# Altium schematic symbol library Vishay Roederstein Tantalum Radial-Lead Capacitor.SchLib: 56 symbols
Pins are listed as number, name and electrical type; pins without a type are passive.

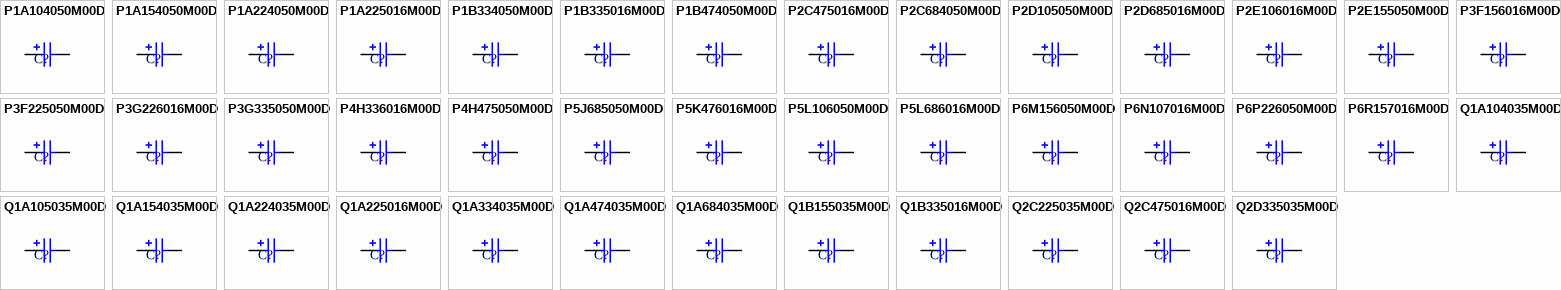
[diagram p0: symbols P1A104050M00D to Q2D335035M00D]

## P1A104050M00D
designator C?
Resin-Coated, Radial-Leaded Solid Tantalum Capacitor: 0.1uF, 20% Tolerance, UR = 50 Volt @ +85°C, Surge = 65V; Note: See Data Sheet for full range of components; Published: 19-Mar-2004; DatasheetDocument: 28-Mar-2002; PackageReference: ETPW-1A; Publisher: Altium Limited; ComponentLink1Description: Manufacturer Link; ComponentLink1URL: http://www.vishay.com/; ComponentLink2Description: Datasheet; ComponentLink2URL: http://www.vishay.com/docs/42074/etpw.pdf; Value: 0.1uF
footprint ETPW-1A (Capacitor, Tantalum Bead; Body 4 x 7.1 mm (Dia.xH max); Pin Spacing 2.5 mm (typ))
simulation model CAP (Capacitor)
signal-integrity model P1A104050M00D
pins: 1, 2
1 alternate drawing of the same symbol

## P1A154050M00D
designator C?
Resin-Coated, Radial-Leaded Solid Tantalum Capacitor: 0.15uF, 20% Tolerance, UR = 50 Volt @ +85°C, Surge = 65V; Note: See Data Sheet for full range of components; Published: 19-Mar-2004; DatasheetDocument: 28-Mar-2002; PackageReference: ETPW-1A; Publisher: Altium Limited; ComponentLink1Description: Manufacturer Link; ComponentLink1URL: http://www.vishay.com/; ComponentLink2Description: Datasheet; ComponentLink2URL: http://www.vishay.com/docs/42074/etpw.pdf; Value: 0.15uF
footprint ETPW-1A (Capacitor, Tantalum Bead; Body 4 x 7.1 mm (Dia.xH max); Pin Spacing 2.5 mm (typ))
simulation model CAP (Capacitor)
signal-integrity model P1A154050M00D
pins: 1, 2
1 alternate drawing of the same symbol

## P1A224050M00D
designator C?
Resin-Coated, Radial-Leaded Solid Tantalum Capacitor: 0.22uF, 20% Tolerance, UR = 50 Volt @ +85°C, Surge = 65V; Note: See Data Sheet for full range of components; Published: 19-Mar-2004; DatasheetDocument: 28-Mar-2002; PackageReference: ETPW-1A; Publisher: Altium Limited; ComponentLink1Description: Manufacturer Link; ComponentLink1URL: http://www.vishay.com/; ComponentLink2Description: Datasheet; ComponentLink2URL: http://www.vishay.com/docs/42074/etpw.pdf; Value: 0.22uF
footprint ETPW-1A (Capacitor, Tantalum Bead; Body 4 x 7.1 mm (Dia.xH max); Pin Spacing 2.5 mm (typ))
simulation model CAP (Capacitor)
signal-integrity model P1A224050M00D
pins: 1, 2
1 alternate drawing of the same symbol

## P1A225016M00D
designator C?
Resin-Coated, Radial-Leaded Solid Tantalum Capacitor: 2.2uF, 20% Tolerance, UR = 16 Volt @ +85°C, Surge = 20.8V; Note: See Data Sheet for full range of components; Published: 19-Mar-2004; DatasheetDocument: 28-Mar-2002; PackageReference: ETPW-1A; Publisher: Altium Limited; ComponentLink1Description: Manufacturer Link; ComponentLink1URL: http://www.vishay.com/; ComponentLink2Description: Datasheet; ComponentLink2URL: http://www.vishay.com/docs/42074/etpw.pdf; Value: 2.2uF
footprint ETPW-1A (Capacitor, Tantalum Bead; Body 4 x 7.1 mm (Dia.xH max); Pin Spacing 2.5 mm (typ))
simulation model CAP (Capacitor)
signal-integrity model P1A225016M00D
pins: 1, 2
1 alternate drawing of the same symbol

## P1B334050M00D
designator C?
Resin-Coated, Radial-Leaded Solid Tantalum Capacitor: 0.33uF, 20% Tolerance, UR = 50 Volt @ +85°C, Surge = 65V; Note: See Data Sheet for full range of components; Published: 19-Mar-2004; DatasheetDocument: 28-Mar-2002; PackageReference: ETPW-1B; Publisher: Altium Limited; ComponentLink1Description: Manufacturer Link; ComponentLink1URL: http://www.vishay.com/; ComponentLink2Description: Datasheet; ComponentLink2URL: http://www.vishay.com/docs/42074/etpw.pdf; Value: 0.33uF
footprint ETPW-1B (Capacitor, Tantalum Bead; Body 4 x 7.1 mm (Dia.xH max); Pin Spacing 2.5 mm (typ))
simulation model CAP (Capacitor)
signal-integrity model P1B334050M00D
pins: 1, 2
1 alternate drawing of the same symbol

## P1B335016M00D
designator C?
Resin-Coated, Radial-Leaded Solid Tantalum Capacitor: 3.3uF, 20% Tolerance, UR = 16 Volt @ +85°C, Surge = 20.8V; Note: See Data Sheet for full range of components; Published: 19-Mar-2004; DatasheetDocument: 28-Mar-2002; PackageReference: ETPW-1B; Publisher: Altium Limited; ComponentLink1Description: Manufacturer Link; ComponentLink1URL: http://www.vishay.com/; ComponentLink2Description: Datasheet; ComponentLink2URL: http://www.vishay.com/docs/42074/etpw.pdf; Value: 3.3uF
footprint ETPW-1B (Capacitor, Tantalum Bead; Body 4 x 7.1 mm (Dia.xH max); Pin Spacing 2.5 mm (typ))
simulation model CAP (Capacitor)
signal-integrity model P1B335016M00D
pins: 1, 2
1 alternate drawing of the same symbol

## P1B474050M00D
designator C?
Resin-Coated, Radial-Leaded Solid Tantalum Capacitor: 0.47uF, 20% Tolerance, UR = 50 Volt @ +85°C, Surge = 65V; Note: See Data Sheet for full range of components; Published: 19-Mar-2004; DatasheetDocument: 28-Mar-2002; PackageReference: ETPW-1B; Publisher: Altium Limited; ComponentLink1Description: Manufacturer Link; ComponentLink1URL: http://www.vishay.com/; ComponentLink2Description: Datasheet; ComponentLink2URL: http://www.vishay.com/docs/42074/etpw.pdf; Value: 0.47uF
footprint ETPW-1B (Capacitor, Tantalum Bead; Body 4 x 7.1 mm (Dia.xH max); Pin Spacing 2.5 mm (typ))
simulation model CAP (Capacitor)
signal-integrity model P1B474050M00D
pins: 1, 2
1 alternate drawing of the same symbol

## P2C475016M00D
designator C?
Resin-Coated, Radial-Leaded Solid Tantalum Capacitor: 4.7uF, 20% Tolerance, UR = 16 Volt @ +85°C, Surge = 20.8V; Note: See Data Sheet for full range of components; Published: 19-Mar-2004; DatasheetDocument: 28-Mar-2002; PackageReference: ETPW-2C; Publisher: Altium Limited; ComponentLink1Description: Manufacturer Link; ComponentLink1URL: http://www.vishay.com/; ComponentLink2Description: Datasheet; ComponentLink2URL: http://www.vishay.com/docs/42074/etpw.pdf; Value: 4.7uF
footprint ETPW-2C (Capacitor, Tantalum Bead; Body 4.5 x 8 mm (Dia.xH max); Pin Spacing 2.5 mm (typ))
simulation model CAP (Capacitor)
signal-integrity model P2C475016M00D
pins: 1, 2
1 alternate drawing of the same symbol

## P2C684050M00D
designator C?
Resin-Coated, Radial-Leaded Solid Tantalum Capacitor: 0.68uF, 20% Tolerance, UR = 50 Volt @ +85°C, Surge = 65V; Note: See Data Sheet for full range of components; Published: 19-Mar-2004; DatasheetDocument: 28-Mar-2002; PackageReference: ETPW-2C; Publisher: Altium Limited; ComponentLink1Description: Manufacturer Link; ComponentLink1URL: http://www.vishay.com/; ComponentLink2Description: Datasheet; ComponentLink2URL: http://www.vishay.com/docs/42074/etpw.pdf; Value: 0.68uF
footprint ETPW-2C (Capacitor, Tantalum Bead; Body 4.5 x 8 mm (Dia.xH max); Pin Spacing 2.5 mm (typ))
simulation model CAP (Capacitor)
signal-integrity model P2C684050M00D
pins: 1, 2
1 alternate drawing of the same symbol

## P2D105050M00D
designator C?
Resin-Coated, Radial-Leaded Solid Tantalum Capacitor: 1.0uF, 20% Tolerance, UR = 50 Volt @ +85°C, Surge = 65V; Note: See Data Sheet for full range of components; Published: 19-Mar-2004; DatasheetDocument: 28-Mar-2002; PackageReference: ETPW-2D; Publisher: Altium Limited; ComponentLink1Description: Manufacturer Link; ComponentLink1URL: http://www.vishay.com/; ComponentLink2Description: Datasheet; ComponentLink2URL: http://www.vishay.com/docs/42074/etpw.pdf; Value: 1.0uF
footprint ETPW-2D (Capacitor, Tantalum Bead; Body 4.5 x 8 mm (Dia.xH max); Pin Spacing 2.5 mm (typ))
simulation model CAP (Capacitor)
signal-integrity model P2D105050M00D
pins: 1, 2
1 alternate drawing of the same symbol

## P2D685016M00D
designator C?
Resin-Coated, Radial-Leaded Solid Tantalum Capacitor: 6.8uF, 20% Tolerance, UR = 16 Volt @ +85°C, Surge = 20.8V; Note: See Data Sheet for full range of components; Published: 19-Mar-2004; DatasheetDocument: 28-Mar-2002; PackageReference: ETPW-2D; Publisher: Altium Limited; ComponentLink1Description: Manufacturer Link; ComponentLink1URL: http://www.vishay.com/; ComponentLink2Description: Datasheet; ComponentLink2URL: http://www.vishay.com/docs/42074/etpw.pdf; Value: 6.8uF
footprint ETPW-2D (Capacitor, Tantalum Bead; Body 4.5 x 8 mm (Dia.xH max); Pin Spacing 2.5 mm (typ))
simulation model CAP (Capacitor)
signal-integrity model P2D685016M00D
pins: 1, 2
1 alternate drawing of the same symbol

## P2E106016M00D
designator C?
Resin-Coated, Radial-Leaded Solid Tantalum Capacitor: 10uF, 20% Tolerance, UR = 16 Volt @ +85°C, Surge = 20.8V; Note: See Data Sheet for full range of components; Published: 19-Mar-2004; DatasheetDocument: 28-Mar-2002; PackageReference: ETPW-2E; Publisher: Altium Limited; ComponentLink1Description: Manufacturer Link; ComponentLink1URL: http://www.vishay.com/; ComponentLink2Description: Datasheet; ComponentLink2URL: http://www.vishay.com/docs/42074/etpw.pdf; Value: 10uF
footprint ETPW-2E (Capacitor, Tantalum Bead; Body 5 x 9.5 mm (Dia.xH max); Pin Spacing 2.5 mm (typ))
simulation model CAP (Capacitor)
signal-integrity model P2E106016M00D
pins: 1, 2
1 alternate drawing of the same symbol

## P2E155050M00D
designator C?
Resin-Coated, Radial-Leaded Solid Tantalum Capacitor: 1.5uF, 20% Tolerance, UR = 50 Volt @ +85°C, Surge = 65V; Note: See Data Sheet for full range of components; Published: 19-Mar-2004; DatasheetDocument: 28-Mar-2002; PackageReference: ETPW-2E; Publisher: Altium Limited; ComponentLink1Description: Manufacturer Link; ComponentLink1URL: http://www.vishay.com/; ComponentLink2Description: Datasheet; ComponentLink2URL: http://www.vishay.com/docs/42074/etpw.pdf; Value: 1.5uF
footprint ETPW-2E (Capacitor, Tantalum Bead; Body 5 x 9.5 mm (Dia.xH max); Pin Spacing 2.5 mm (typ))
simulation model CAP (Capacitor)
signal-integrity model P2E155050M00D
pins: 1, 2
1 alternate drawing of the same symbol

## P3F156016M00D
designator C?
Resin-Coated, Radial-Leaded Solid Tantalum Capacitor: 15uF, 20% Tolerance, UR = 16 Volt @ +85°C, Surge = 20.8V; Note: See Data Sheet for full range of components; Published: 19-Mar-2004; DatasheetDocument: 28-Mar-2002; PackageReference: ETPW-3F; Publisher: Altium Limited; ComponentLink1Description: Manufacturer Link; ComponentLink1URL: http://www.vishay.com/; ComponentLink2Description: Datasheet; ComponentLink2URL: http://www.vishay.com/docs/42074/etpw.pdf; Value: 15uF
footprint ETPW-3F (Capacitor, Tantalum Bead; Body 5 x 9.5 mm (Dia.xH max); Pin Spacing 2.5 mm (typ))
simulation model CAP (Capacitor)
signal-integrity model P3F156016M00D
pins: 1, 2
1 alternate drawing of the same symbol

## P3F225050M00D
designator C?
Resin-Coated, Radial-Leaded Solid Tantalum Capacitor: 2.2uF, 20% Tolerance, UR = 50 Volt @ +85°C, Surge = 65V; Note: See Data Sheet for full range of components; Published: 19-Mar-2004; DatasheetDocument: 28-Mar-2002; PackageReference: ETPW-3F; Publisher: Altium Limited; ComponentLink1Description: Manufacturer Link; ComponentLink1URL: http://www.vishay.com/; ComponentLink2Description: Datasheet; ComponentLink2URL: http://www.vishay.com/docs/42074/etpw.pdf; Value: 2.2uF
footprint ETPW-3F (Capacitor, Tantalum Bead; Body 5 x 9.5 mm (Dia.xH max); Pin Spacing 2.5 mm (typ))
simulation model CAP (Capacitor)
signal-integrity model P3F225050M00D
pins: 1, 2
1 alternate drawing of the same symbol

## P3G226016M00D
designator C?
Resin-Coated, Radial-Leaded Solid Tantalum Capacitor: 22uF, 20% Tolerance, UR = 16 Volt @ +85°C, Surge = 20.8V; Note: See Data Sheet for full range of components; Published: 19-Mar-2004; DatasheetDocument: 28-Mar-2002; PackageReference: ETPW-3G; Publisher: Altium Limited; ComponentLink1Description: Manufacturer Link; ComponentLink1URL: http://www.vishay.com/; ComponentLink2Description: Datasheet; ComponentLink2URL: http://www.vishay.com/docs/42074/etpw.pdf; Value: 22uF
footprint ETPW-3G (Capacitor, Tantalum Bead; Body 5.5 x 10 mm (Dia.xH max); Pin Spacing 2.5 mm (typ))
simulation model CAP (Capacitor)
signal-integrity model P3G226016M00D
pins: 1, 2
1 alternate drawing of the same symbol

## P3G335050M00D
designator C?
Resin-Coated, Radial-Leaded Solid Tantalum Capacitor: 3.3uF, 20% Tolerance, UR = 50 Volt @ +85°C, Surge = 65V; Note: See Data Sheet for full range of components; Published: 19-Mar-2004; DatasheetDocument: 28-Mar-2002; PackageReference: ETPW-3G; Publisher: Altium Limited; ComponentLink1Description: Manufacturer Link; ComponentLink1URL: http://www.vishay.com/; ComponentLink2Description: Datasheet; ComponentLink2URL: http://www.vishay.com/docs/42074/etpw.pdf; Value: 3.3uF
footprint ETPW-3G (Capacitor, Tantalum Bead; Body 5.5 x 10 mm (Dia.xH max); Pin Spacing 2.5 mm (typ))
simulation model CAP (Capacitor)
signal-integrity model P3G335050M00D
pins: 1, 2
1 alternate drawing of the same symbol

## P4H336016M00D
designator C?
Resin-Coated, Radial-Leaded Solid Tantalum Capacitor: 33uF, 20% Tolerance, UR = 16 Volt @ +85°C, Surge = 20.8V; Note: See Data Sheet for full range of components; Published: 19-Mar-2004; DatasheetDocument: 28-Mar-2002; PackageReference: ETPW-4H; Publisher: Altium Limited; ComponentLink1Description: Manufacturer Link; ComponentLink1URL: http://www.vishay.com/; ComponentLink2Description: Datasheet; ComponentLink2URL: http://www.vishay.com/docs/42074/etpw.pdf; Value: 33uF
footprint ETPW-4H (Capacitor, Tantalum Bead; Body 6 x 10 mm (Dia.xH max); Pin Spacing 2.5 mm (typ))
simulation model CAP (Capacitor)
signal-integrity model P4H336016M00D
pins: 1, 2
1 alternate drawing of the same symbol

## P4H475050M00D
designator C?
Resin-Coated, Radial-Leaded Solid Tantalum Capacitor: 4.7uF, 20% Tolerance, UR = 50 Volt @ +85°C, Surge = 65V; Note: See Data Sheet for full range of components; Published: 19-Mar-2004; DatasheetDocument: 28-Mar-2002; PackageReference: ETPW-4H; Publisher: Altium Limited; ComponentLink1Description: Manufacturer Link; ComponentLink1URL: http://www.vishay.com/; ComponentLink2Description: Datasheet; ComponentLink2URL: http://www.vishay.com/docs/42074/etpw.pdf; Value: 4.7uF
footprint ETPW-4H (Capacitor, Tantalum Bead; Body 6 x 10 mm (Dia.xH max); Pin Spacing 2.5 mm (typ))
simulation model CAP (Capacitor)
signal-integrity model P4H475050M00D
pins: 1, 2
1 alternate drawing of the same symbol

## P5J685050M00D
designator C?
Resin-Coated, Radial-Leaded Solid Tantalum Capacitor: 6.8uF, 20% Tolerance, UR = 50 Volt @ +85°C, Surge = 65V; Note: See Data Sheet for full range of components; Published: 19-Mar-2004; DatasheetDocument: 28-Mar-2002; PackageReference: ETPW-5J; Publisher: Altium Limited; ComponentLink1Description: Manufacturer Link; ComponentLink1URL: http://www.vishay.com/; ComponentLink2Description: Datasheet; ComponentLink2URL: http://www.vishay.com/docs/42074/etpw.pdf; Value: 6.8uF
footprint ETPW-5J (Capacitor, Tantalum Bead; Body 8.6 x 12.5 mm (Dia.xH max); Pin Spacing 5.0 mm (typ))
simulation model CAP (Capacitor)
signal-integrity model P5J685050M00D
pins: 1, 2
1 alternate drawing of the same symbol

## P5K476016M00D
designator C?
Resin-Coated, Radial-Leaded Solid Tantalum Capacitor: 47uF, 20% Tolerance, UR = 16 Volt @ +85°C, Surge = 20.8V; Note: See Data Sheet for full range of components; Published: 19-Mar-2004; DatasheetDocument: 28-Mar-2002; PackageReference: ETPW-5K; Publisher: Altium Limited; ComponentLink1Description: Manufacturer Link; ComponentLink1URL: http://www.vishay.com/; ComponentLink2Description: Datasheet; ComponentLink2URL: http://www.vishay.com/docs/42074/etpw.pdf; Value: 47uF
footprint ETPW-5K (Capacitor, Tantalum Bead; Body 8.6 x 12.5 mm (Dia.xH max); Pin Spacing 5.0 mm (typ))
simulation model CAP (Capacitor)
signal-integrity model P5K476016M00D
pins: 1, 2
1 alternate drawing of the same symbol

## P5L106050M00D
designator C?
Resin-Coated, Radial-Leaded Solid Tantalum Capacitor: 10uF, 20% Tolerance, UR = 50 Volt @ +85°C, Surge = 65V; Note: See Data Sheet for full range of components; Published: 19-Mar-2004; DatasheetDocument: 28-Mar-2002; PackageReference: ETPW-5L; Publisher: Altium Limited; ComponentLink1Description: Manufacturer Link; ComponentLink1URL: http://www.vishay.com/; ComponentLink2Description: Datasheet; ComponentLink2URL: http://www.vishay.com/docs/42074/etpw.pdf; Value: 10uF
footprint ETPW-5L (Capacitor, Tantalum Bead; Body 8.6 x 12.5 mm (Dia.xH max); Pin Spacing 5.0 mm (typ))
simulation model CAP (Capacitor)
signal-integrity model P5L106050M00D
pins: 1, 2
1 alternate drawing of the same symbol

## P5L686016M00D
designator C?
Resin-Coated, Radial-Leaded Solid Tantalum Capacitor: 68uF, 20% Tolerance, UR = 16 Volt @ +85°C, Surge = 20.8V; Note: See Data Sheet for full range of components; Published: 19-Mar-2004; DatasheetDocument: 28-Mar-2002; PackageReference: ETPW-5L; Publisher: Altium Limited; ComponentLink1Description: Manufacturer Link; ComponentLink1URL: http://www.vishay.com/; ComponentLink2Description: Datasheet; ComponentLink2URL: http://www.vishay.com/docs/42074/etpw.pdf; Value: 68uF
footprint ETPW-5L (Capacitor, Tantalum Bead; Body 8.6 x 12.5 mm (Dia.xH max); Pin Spacing 5.0 mm (typ))
simulation model CAP (Capacitor)
signal-integrity model P5L686016M00D
pins: 1, 2
1 alternate drawing of the same symbol

## P6M156050M00D
designator C?
Resin-Coated, Radial-Leaded Solid Tantalum Capacitor: 15uF, 20% Tolerance, UR = 50 Volt @ +85°C, Surge = 65V; Note: See Data Sheet for full range of components; Published: 19-Mar-2004; DatasheetDocument: 28-Mar-2002; PackageReference: ETPW-6M; Publisher: Altium Limited; ComponentLink1Description: Manufacturer Link; ComponentLink1URL: http://www.vishay.com/; ComponentLink2Description: Datasheet; ComponentLink2URL: http://www.vishay.com/docs/42074/etpw.pdf; Value: 15uF
footprint ETPW-6M (Capacitor, Tantalum Bead; Body 9.5 x 15 mm (Dia.xH max); Pin Spacing 5.0 mm (typ))
simulation model CAP (Capacitor)
signal-integrity model P6M156050M00D
pins: 1, 2
1 alternate drawing of the same symbol

## P6N107016M00D
designator C?
Resin-Coated, Radial-Leaded Solid Tantalum Capacitor: 100uF, 20% Tolerance, UR = 16 Volt @ +85°C, Surge = 20.8V; Note: See Data Sheet for full range of components; Published: 19-Mar-2004; DatasheetDocument: 28-Mar-2002; PackageReference: ETPW-6N; Publisher: Altium Limited; ComponentLink1Description: Manufacturer Link; ComponentLink1URL: http://www.vishay.com/; ComponentLink2Description: Datasheet; ComponentLink2URL: http://www.vishay.com/docs/42074/etpw.pdf; Value: 100uF
footprint ETPW-6N (Capacitor, Tantalum Bead; Body 9.5 x 15 mm (Dia.xH max); Pin Spacing 5.0 mm (typ))
simulation model CAP (Capacitor)
signal-integrity model P6N107016M00D
pins: 1, 2
1 alternate drawing of the same symbol

## P6P226050M00D
designator C?
Resin-Coated, Radial-Leaded Solid Tantalum Capacitor: 22uF, 20% Tolerance, UR = 50 Volt @ +85°C, Surge = 65V; Note: See Data Sheet for full range of components; Published: 19-Mar-2004; DatasheetDocument: 28-Mar-2002; PackageReference: ETPW-6P; Publisher: Altium Limited; ComponentLink1Description: Manufacturer Link; ComponentLink1URL: http://www.vishay.com/; ComponentLink2Description: Datasheet; ComponentLink2URL: http://www.vishay.com/docs/42074/etpw.pdf; Value: 22uF
footprint ETPW-6P (Capacitor, Tantalum Bead; Body 9.5 x 16 mm (Dia.xH max); Pin Spacing 5.0 mm (typ))
simulation model CAP (Capacitor)
signal-integrity model P6P226050M00D
pins: 1, 2
1 alternate drawing of the same symbol

## P6R157016M00D
designator C?
Resin-Coated, Radial-Leaded Solid Tantalum Capacitor: 150uF, 20% Tolerance, UR = 16 Volt @ +85°C, Surge = 20.8V; Note: See Data Sheet for full range of components; Published: 19-Mar-2004; DatasheetDocument: 28-Mar-2002; PackageReference: ETPW-6R; Publisher: Altium Limited; ComponentLink1Description: Manufacturer Link; ComponentLink1URL: http://www.vishay.com/; ComponentLink2Description: Datasheet; ComponentLink2URL: http://www.vishay.com/docs/42074/etpw.pdf; Value: 150uF
footprint ETPW-6R (Capacitor, Tantalum Bead; Body 9.5 x 16 mm (Dia.xH max); Pin Spacing 5.0 mm (typ))
simulation model CAP (Capacitor)
signal-integrity model P6R157016M00D
pins: 1, 2
1 alternate drawing of the same symbol

## Q1A104035M00D
designator C?
Resin-Coated, Radial-Lead Solid Tantalum Capacitor: 0.1uF, 20% Tolerance, UR = 35 Volt @ +85°C, Surge = 45.5V; Note: See Data Sheet for full range of components; Published: 19-Mar-2004; DatasheetDocument: 28-Mar-2002; PackageReference: ETQW-1A; Publisher: Altium Limited; ComponentLink1Description: Manufacturer Link; ComponentLink1URL: http://www.vishay.com/; ComponentLink2Description: Datasheet; ComponentLink2URL: http://www.vishay.com/docs/42075/etqw.pdf; Value: 0.1uF
footprint ETQW-1A (Capacitor, Tantalum Bead; Body 4.5 x 7.5 mm (Dia.xH max); Pin Spacing 2.5 mm (typ))
simulation model CAP (Capacitor)
signal-integrity model Q1A104035M00D
pins: 1, 2
1 alternate drawing of the same symbol

## Q1A105035M00D
designator C?
Resin-Coated, Radial-Lead Solid Tantalum Capacitor: 1.0uF, 20% Tolerance, UR = 35 Volt @ +85°C, Surge = 45.5V; Note: See Data Sheet for full range of components; Published: 19-Mar-2004; DatasheetDocument: 28-Mar-2002; PackageReference: ETQW-1A; Publisher: Altium Limited; ComponentLink1Description: Manufacturer Link; ComponentLink1URL: http://www.vishay.com/; ComponentLink2Description: Datasheet; ComponentLink2URL: http://www.vishay.com/docs/42075/etqw.pdf; Value: 1.0uF
footprint ETQW-1A (Capacitor, Tantalum Bead; Body 4.5 x 7.5 mm (Dia.xH max); Pin Spacing 2.5 mm (typ))
simulation model CAP (Capacitor)
signal-integrity model Q1A105035M00D
pins: 1, 2
1 alternate drawing of the same symbol

## Q1A154035M00D
designator C?
Resin-Coated, Radial-Lead Solid Tantalum Capacitor: 0.15uF, 20% Tolerance, UR = 35 Volt @ +85°C, Surge = 45.5V; Note: See Data Sheet for full range of components; Published: 19-Mar-2004; DatasheetDocument: 28-Mar-2002; PackageReference: ETQW-1A; Publisher: Altium Limited; ComponentLink1Description: Manufacturer Link; ComponentLink1URL: http://www.vishay.com/; ComponentLink2Description: Datasheet; ComponentLink2URL: http://www.vishay.com/docs/42075/etqw.pdf; Value: 0.15uF
footprint ETQW-1A (Capacitor, Tantalum Bead; Body 4.5 x 7.5 mm (Dia.xH max); Pin Spacing 2.5 mm (typ))
simulation model CAP (Capacitor)
signal-integrity model Q1A154035M00D
pins: 1, 2
1 alternate drawing of the same symbol

## Q1A224035M00D
designator C?
Resin-Coated, Radial-Lead Solid Tantalum Capacitor: 0.22uF, 20% Tolerance, UR = 35 Volt @ +85°C, Surge = 45.5V; Note: See Data Sheet for full range of components; Published: 19-Mar-2004; DatasheetDocument: 28-Mar-2002; PackageReference: ETQW-1A; Publisher: Altium Limited; ComponentLink1Description: Manufacturer Link; ComponentLink1URL: http://www.vishay.com/; ComponentLink2Description: Datasheet; ComponentLink2URL: http://www.vishay.com/docs/42075/etqw.pdf; Value: 0.22uF
footprint ETQW-1A (Capacitor, Tantalum Bead; Body 4.5 x 7.5 mm (Dia.xH max); Pin Spacing 2.5 mm (typ))
simulation model CAP (Capacitor)
signal-integrity model Q1A224035M00D
pins: 1, 2
1 alternate drawing of the same symbol

## Q1A225016M00D
designator C?
Resin-Coated, Radial-Lead Solid Tantalum Capacitor: 2.2uF, 20% Tolerance, UR = 16 Volt @ +85°C, Surge = 20.8V; Note: See Data Sheet for full range of components; Published: 19-Mar-2004; DatasheetDocument: 28-Mar-2002; PackageReference: ETQW-1A; Publisher: Altium Limited; ComponentLink1Description: Manufacturer Link; ComponentLink1URL: http://www.vishay.com/; ComponentLink2Description: Datasheet; ComponentLink2URL: http://www.vishay.com/docs/42075/etqw.pdf; Value: 2.2uF
footprint ETQW-1A (Capacitor, Tantalum Bead; Body 4.5 x 7.5 mm (Dia.xH max); Pin Spacing 2.5 mm (typ))
simulation model CAP (Capacitor)
signal-integrity model Q1A225016M00D
pins: 1, 2
1 alternate drawing of the same symbol

## Q1A334035M00D
designator C?
Resin-Coated, Radial-Lead Solid Tantalum Capacitor: 0.33uF, 20% Tolerance, UR = 35 Volt @ +85°C, Surge = 45.5V; Note: See Data Sheet for full range of components; Published: 19-Mar-2004; DatasheetDocument: 28-Mar-2002; PackageReference: ETQW-1A; Publisher: Altium Limited; ComponentLink1Description: Manufacturer Link; ComponentLink1URL: http://www.vishay.com/; ComponentLink2Description: Datasheet; ComponentLink2URL: http://www.vishay.com/docs/42075/etqw.pdf; Value: 0.33uF
footprint ETQW-1A (Capacitor, Tantalum Bead; Body 4.5 x 7.5 mm (Dia.xH max); Pin Spacing 2.5 mm (typ))
simulation model CAP (Capacitor)
signal-integrity model Q1A334035M00D
pins: 1, 2
1 alternate drawing of the same symbol

## Q1A474035M00D
designator C?
Resin-Coated, Radial-Lead Solid Tantalum Capacitor: 0.47uF, 20% Tolerance, UR = 35 Volt @ +85°C, Surge = 45.5V; Note: See Data Sheet for full range of components; Published: 19-Mar-2004; DatasheetDocument: 28-Mar-2002; PackageReference: ETQW-1A; Publisher: Altium Limited; ComponentLink1Description: Manufacturer Link; ComponentLink1URL: http://www.vishay.com/; ComponentLink2Description: Datasheet; ComponentLink2URL: http://www.vishay.com/docs/42075/etqw.pdf; Value: 0.47uF
footprint ETQW-1A (Capacitor, Tantalum Bead; Body 4.5 x 7.5 mm (Dia.xH max); Pin Spacing 2.5 mm (typ))
simulation model CAP (Capacitor)
signal-integrity model Q1A474035M00D
pins: 1, 2
1 alternate drawing of the same symbol

## Q1A684035M00D
designator C?
Resin-Coated, Radial-Lead Solid Tantalum Capacitor: 0.68uF, 20% Tolerance, UR = 35 Volt @ +85°C, Surge = 45.5V; Note: See Data Sheet for full range of components; Published: 19-Mar-2004; DatasheetDocument: 28-Mar-2002; PackageReference: ETQW-1A; Publisher: Altium Limited; ComponentLink1Description: Manufacturer Link; ComponentLink1URL: http://www.vishay.com/; ComponentLink2Description: Datasheet; ComponentLink2URL: http://www.vishay.com/docs/42075/etqw.pdf; Value: 0.68uF
footprint ETQW-1A (Capacitor, Tantalum Bead; Body 4.5 x 7.5 mm (Dia.xH max); Pin Spacing 2.5 mm (typ))
simulation model CAP (Capacitor)
signal-integrity model Q1A684035M00D
pins: 1, 2
1 alternate drawing of the same symbol

## Q1B155035M00D
designator C?
Resin-Coated, Radial-Lead Solid Tantalum Capacitor: 1.5uF, 20% Tolerance, UR = 35 Volt @ +85°C, Surge = 45.5V; Note: See Data Sheet for full range of components; Published: 19-Mar-2004; DatasheetDocument: 28-Mar-2002; PackageReference: ETQW-1B; Publisher: Altium Limited; ComponentLink1Description: Manufacturer Link; ComponentLink1URL: http://www.vishay.com/; ComponentLink2Description: Datasheet; ComponentLink2URL: http://www.vishay.com/docs/42075/etqw.pdf; Value: 1.5uF
footprint ETQW-1B (Capacitor, Tantalum Bead; Body 4.5 x 7.5 mm (Dia.xH max); Pin Spacing 2.5 mm (typ))
simulation model CAP (Capacitor)
signal-integrity model Q1B155035M00D
pins: 1, 2
1 alternate drawing of the same symbol

## Q1B335016M00D
designator C?
Resin-Coated, Radial-Lead Solid Tantalum Capacitor: 3.3uF, 20% Tolerance, UR = 16 Volt @ +85°C, Surge = 20.8V; Note: See Data Sheet for full range of components; Published: 19-Mar-2004; DatasheetDocument: 28-Mar-2002; PackageReference: ETQW-1B; Publisher: Altium Limited; ComponentLink1Description: Manufacturer Link; ComponentLink1URL: http://www.vishay.com/; ComponentLink2Description: Datasheet; ComponentLink2URL: http://www.vishay.com/docs/42075/etqw.pdf; Value: 3.3uF
footprint ETQW-1B (Capacitor, Tantalum Bead; Body 4.5 x 7.5 mm (Dia.xH max); Pin Spacing 2.5 mm (typ))
simulation model CAP (Capacitor)
signal-integrity model Q1B335016M00D
pins: 1, 2
1 alternate drawing of the same symbol

## Q2C225035M00D
designator C?
Resin-Coated, Radial-Lead Solid Tantalum Capacitor: 2.2uF, 20% Tolerance, UR = 35 Volt @ +85°C, Surge = 45.5V; Note: See Data Sheet for full range of components; Published: 19-Mar-2004; DatasheetDocument: 28-Mar-2002; PackageReference: ETQW-2C; Publisher: Altium Limited; ComponentLink1Description: Manufacturer Link; ComponentLink1URL: http://www.vishay.com/; ComponentLink2Description: Datasheet; ComponentLink2URL: http://www.vishay.com/docs/42075/etqw.pdf; Value: 2.2uF
footprint ETQW-2C (Capacitor, Tantalum Bead; Body 5 x 9.5 mm (Dia.xH max); Pin Spacing 2.5 mm (typ))
simulation model CAP (Capacitor)
signal-integrity model Q2C225035M00D
pins: 1, 2
1 alternate drawing of the same symbol

## Q2C475016M00D
designator C?
Resin-Coated, Radial-Lead Solid Tantalum Capacitor: 4.7uF, 20% Tolerance, UR = 16 Volt @ +85°C, Surge = 20.8V; Note: See Data Sheet for full range of components; Published: 19-Mar-2004; DatasheetDocument: 28-Mar-2002; PackageReference: ETQW-2C; Publisher: Altium Limited; ComponentLink1Description: Manufacturer Link; ComponentLink1URL: http://www.vishay.com/; ComponentLink2Description: Datasheet; ComponentLink2URL: http://www.vishay.com/docs/42075/etqw.pdf; Value: 4.7uF
footprint ETQW-2C (Capacitor, Tantalum Bead; Body 5 x 9.5 mm (Dia.xH max); Pin Spacing 2.5 mm (typ))
simulation model CAP (Capacitor)
signal-integrity model Q2C475016M00D
pins: 1, 2
1 alternate drawing of the same symbol

## Q2D335035M00D
designator C?
Resin-Coated, Radial-Lead Solid Tantalum Capacitor: 3.3uF, 20% Tolerance, UR = 35 Volt @ +85°C, Surge = 45.5V; Note: See Data Sheet for full range of components; Published: 19-Mar-2004; DatasheetDocument: 28-Mar-2002; PackageReference: ETQW-2D; Publisher: Altium Limited; ComponentLink1Description: Manufacturer Link; ComponentLink1URL: http://www.vishay.com/; ComponentLink2Description: Datasheet; ComponentLink2URL: http://www.vishay.com/docs/42075/etqw.pdf; Value: 3.3uF
footprint ETQW-2D (Capacitor, Tantalum Bead; Body 5 x 9.5 mm (Dia.xH max); Pin Spacing 2.5 mm (typ))
simulation model CAP (Capacitor)
signal-integrity model Q2D335035M00D
pins: 1, 2
1 alternate drawing of the same symbol

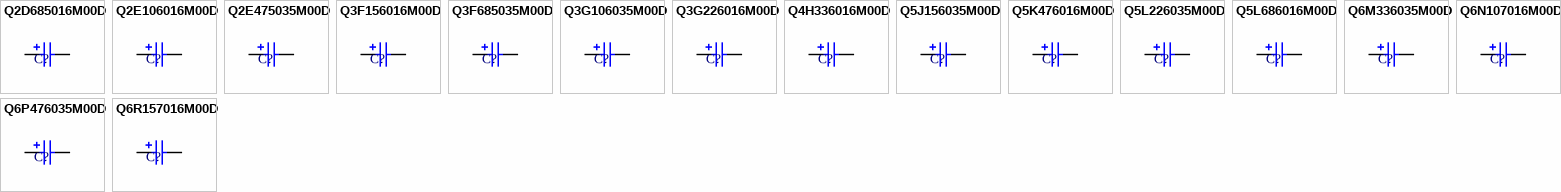
[diagram p1: symbols Q2D685016M00D to Q6R157016M00D]

## Q2D685016M00D
designator C?
Resin-Coated, Radial-Lead Solid Tantalum Capacitor: 6.8uF, 20% Tolerance, UR = 16 Volt @ +85°C, Surge = 20.8V; Note: See Data Sheet for full range of components; Published: 19-Mar-2004; DatasheetDocument: 28-Mar-2002; PackageReference: ETQW-2D; Publisher: Altium Limited; ComponentLink1Description: Manufacturer Link; ComponentLink1URL: http://www.vishay.com/; ComponentLink2Description: Datasheet; ComponentLink2URL: http://www.vishay.com/docs/42075/etqw.pdf; Value: 6.8uF
footprint ETQW-2D (Capacitor, Tantalum Bead; Body 5 x 9.5 mm (Dia.xH max); Pin Spacing 2.5 mm (typ))
simulation model CAP (Capacitor)
signal-integrity model Q2D685016M00D
pins: 1, 2
1 alternate drawing of the same symbol

## Q2E106016M00D
designator C?
Resin-Coated, Radial-Lead Solid Tantalum Capacitor: 10uF, 20% Tolerance, UR = 16 Volt @ +85°C, Surge = 20.8V; Note: See Data Sheet for full range of components; Published: 19-Mar-2004; DatasheetDocument: 28-Mar-2002; PackageReference: ETQW-2E; Publisher: Altium Limited; ComponentLink1Description: Manufacturer Link; ComponentLink1URL: http://www.vishay.com/; ComponentLink2Description: Datasheet; ComponentLink2URL: http://www.vishay.com/docs/42075/etqw.pdf; Value: 10uF
footprint ETQW-2E (Capacitor, Tantalum Bead; Body 5 x 9.5 mm (Dia.xH max); Pin Spacing 2.5 mm (typ))
simulation model CAP (Capacitor)
signal-integrity model Q2E106016M00D
pins: 1, 2
1 alternate drawing of the same symbol

## Q2E475035M00D
designator C?
Resin-Coated, Radial-Lead Solid Tantalum Capacitor: 4.7uF, 20% Tolerance, UR = 35 Volt @ +85°C, Surge = 45.5V; Note: See Data Sheet for full range of components; Published: 19-Mar-2004; DatasheetDocument: 28-Mar-2002; PackageReference: ETQW-2E; Publisher: Altium Limited; ComponentLink1Description: Manufacturer Link; ComponentLink1URL: http://www.vishay.com/; ComponentLink2Description: Datasheet; ComponentLink2URL: http://www.vishay.com/docs/42075/etqw.pdf; Value: 4.7uF
footprint ETQW-2E (Capacitor, Tantalum Bead; Body 5 x 9.5 mm (Dia.xH max); Pin Spacing 2.5 mm (typ))
simulation model CAP (Capacitor)
signal-integrity model Q2E475035M00D
pins: 1, 2
1 alternate drawing of the same symbol

## Q3F156016M00D
designator C?
Resin-Coated, Radial-Lead Solid Tantalum Capacitor: 15uF, 20% Tolerance, UR = 16 Volt @ +85°C, Surge = 20.8V; Note: See Data Sheet for full range of components; Published: 19-Mar-2004; DatasheetDocument: 28-Mar-2002; PackageReference: ETQW-3F; Publisher: Altium Limited; ComponentLink1Description: Manufacturer Link; ComponentLink1URL: http://www.vishay.com/; ComponentLink2Description: Datasheet; ComponentLink2URL: http://www.vishay.com/docs/42075/etqw.pdf; Value: 15uF
footprint ETQW-3F (Capacitor, Tantalum Bead; Body 6 x 10.5 mm (Dia.xH max); Pin Spacing 2.5 mm (typ))
simulation model CAP (Capacitor)
signal-integrity model Q3F156016M00D
pins: 1, 2
1 alternate drawing of the same symbol

## Q3F685035M00D
designator C?
Resin-Coated, Radial-Lead Solid Tantalum Capacitor: 6.8uF, 20% Tolerance, UR = 35 Volt @ +85°C, Surge = 45.5V; Note: See Data Sheet for full range of components; Published: 19-Mar-2004; DatasheetDocument: 28-Mar-2002; PackageReference: ETQW-3F; Publisher: Altium Limited; ComponentLink1Description: Manufacturer Link; ComponentLink1URL: http://www.vishay.com/; ComponentLink2Description: Datasheet; ComponentLink2URL: http://www.vishay.com/docs/42075/etqw.pdf; Value: 6.8uF
footprint ETQW-3F (Capacitor, Tantalum Bead; Body 6 x 10.5 mm (Dia.xH max); Pin Spacing 2.5 mm (typ))
simulation model CAP (Capacitor)
signal-integrity model Q3F685035M00D
pins: 1, 2
1 alternate drawing of the same symbol

## Q3G106035M00D
designator C?
Resin-Coated, Radial-Lead Solid Tantalum Capacitor: 10uF, 20% Tolerance, UR = 35 Volt @ +85°C, Surge = 45.5V; Note: See Data Sheet for full range of components; Published: 19-Mar-2004; DatasheetDocument: 28-Mar-2002; PackageReference: ETQW-3G; Publisher: Altium Limited; ComponentLink1Description: Manufacturer Link; ComponentLink1URL: http://www.vishay.com/; ComponentLink2Description: Datasheet; ComponentLink2URL: http://www.vishay.com/docs/42075/etqw.pdf; Value: 10uF
footprint ETQW-3G (Capacitor, Tantalum Bead; Body 6 x 10.5 mm (Dia.xH max); Pin Spacing 2.5 mm (typ))
simulation model CAP (Capacitor)
signal-integrity model Q3G106035M00D
pins: 1, 2
1 alternate drawing of the same symbol

## Q3G226016M00D
designator C?
Resin-Coated, Radial-Lead Solid Tantalum Capacitor: 22uF, 20% Tolerance, UR = 16 Volt @ +85°C, Surge = 20.8V; Note: See Data Sheet for full range of components; Published: 19-Mar-2004; DatasheetDocument: 28-Mar-2002; PackageReference: ETQW-3G; Publisher: Altium Limited; ComponentLink1Description: Manufacturer Link; ComponentLink1URL: http://www.vishay.com/; ComponentLink2Description: Datasheet; ComponentLink2URL: http://www.vishay.com/docs/42075/etqw.pdf; Value: 22uF
footprint ETQW-3G (Capacitor, Tantalum Bead; Body 6 x 10.5 mm (Dia.xH max); Pin Spacing 2.5 mm (typ))
simulation model CAP (Capacitor)
signal-integrity model Q3G226016M00D
pins: 1, 2
1 alternate drawing of the same symbol

## Q4H336016M00D
designator C?
Resin-Coated, Radial-Lead Solid Tantalum Capacitor: 33uF, 20% Tolerance, UR = 16 Volt @ +85°C, Surge = 20.8V; Note: See Data Sheet for full range of components; Published: 19-Mar-2004; DatasheetDocument: 28-Mar-2002; PackageReference: ETQW-4H; Publisher: Altium Limited; ComponentLink1Description: Manufacturer Link; ComponentLink1URL: http://www.vishay.com/; ComponentLink2Description: Datasheet; ComponentLink2URL: http://www.vishay.com/docs/42075/etqw.pdf; Value: 33uF
footprint ETQW-4H (Capacitor, Tantalum Bead; Body 6.5 x 11.5 mm (Dia.xH max); Pin Spacing 2.5 mm (typ))
simulation model CAP (Capacitor)
signal-integrity model Q4H336016M00D
pins: 1, 2
1 alternate drawing of the same symbol

## Q5J156035M00D
designator C?
Resin-Coated, Radial-Lead Solid Tantalum Capacitor: 15uF, 20% Tolerance, UR = 35 Volt @ +85°C, Surge = 45.5V; Note: See Data Sheet for full range of components; Published: 19-Mar-2004; DatasheetDocument: 28-Mar-2002; PackageReference: ETQW-5J; Publisher: Altium Limited; ComponentLink1Description: Manufacturer Link; ComponentLink1URL: http://www.vishay.com/; ComponentLink2Description: Datasheet; ComponentLink2URL: http://www.vishay.com/docs/42075/etqw.pdf; Value: 15uF
footprint ETQW-5J (Capacitor, Tantalum Bead; Body 9 x 14 mm (Dia.xH max); Pin Spacing 5.0 mm (typ))
simulation model CAP (Capacitor)
signal-integrity model Q5J156035M00D
pins: 1, 2
1 alternate drawing of the same symbol

## Q5K476016M00D
designator C?
Resin-Coated, Radial-Lead Solid Tantalum Capacitor: 47uF, 20% Tolerance, UR = 16 Volt @ +85°C, Surge = 20.8V; Note: See Data Sheet for full range of components; Published: 19-Mar-2004; DatasheetDocument: 28-Mar-2002; PackageReference: ETQW-5K; Publisher: Altium Limited; ComponentLink1Description: Manufacturer Link; ComponentLink1URL: http://www.vishay.com/; ComponentLink2Description: Datasheet; ComponentLink2URL: http://www.vishay.com/docs/42075/etqw.pdf; Value: 47uF
footprint ETQW-5K (Capacitor, Tantalum Bead; Body 9 x 14 mm (Dia.xH max); Pin Spacing 5.0 mm (typ))
simulation model CAP (Capacitor)
signal-integrity model Q5K476016M00D
pins: 1, 2
1 alternate drawing of the same symbol

## Q5L226035M00D
designator C?
Resin-Coated, Radial-Lead Solid Tantalum Capacitor: 22uF, 20% Tolerance, UR = 35 Volt @ +85°C, Surge = 45.5V; Note: See Data Sheet for full range of components; Published: 19-Mar-2004; DatasheetDocument: 28-Mar-2002; PackageReference: ETQW-5L; Publisher: Altium Limited; ComponentLink1Description: Manufacturer Link; ComponentLink1URL: http://www.vishay.com/; ComponentLink2Description: Datasheet; ComponentLink2URL: http://www.vishay.com/docs/42075/etqw.pdf; Value: 22uF
footprint ETQW-5L (Capacitor, Tantalum Bead; Body 9 x 14 mm (Dia.xH max); Pin Spacing 5.0 mm (typ))
simulation model CAP (Capacitor)
signal-integrity model Q5L226035M00D
pins: 1, 2
1 alternate drawing of the same symbol

## Q5L686016M00D
designator C?
Resin-Coated, Radial-Lead Solid Tantalum Capacitor: 68uF, 20% Tolerance, UR = 16 Volt @ +85°C, Surge = 20.8V; Note: See Data Sheet for full range of components; Published: 19-Mar-2004; DatasheetDocument: 28-Mar-2002; PackageReference: ETQW-5L; Publisher: Altium Limited; ComponentLink1Description: Manufacturer Link; ComponentLink1URL: http://www.vishay.com/; ComponentLink2Description: Datasheet; ComponentLink2URL: http://www.vishay.com/docs/42075/etqw.pdf; Value: 68uF
footprint ETQW-5L (Capacitor, Tantalum Bead; Body 9 x 14 mm (Dia.xH max); Pin Spacing 5.0 mm (typ))
simulation model CAP (Capacitor)
signal-integrity model Q5L686016M00D
pins: 1, 2
1 alternate drawing of the same symbol

## Q6M336035M00D
designator C?
Resin-Coated, Radial-Lead Solid Tantalum Capacitor: 33uF, 20% Tolerance, UR = 35 Volt @ +85°C, Surge = 45.5V; Note: See Data Sheet for full range of components; Published: 19-Mar-2004; DatasheetDocument: 28-Mar-2002; PackageReference: ETQW-6M; Publisher: Altium Limited; ComponentLink1Description: Manufacturer Link; ComponentLink1URL: http://www.vishay.com/; ComponentLink2Description: Datasheet; ComponentLink2URL: http://www.vishay.com/docs/42075/etqw.pdf; Value: 33uF
footprint ETQW-6M (Capacitor, Tantalum Bead; Body 9.5 x 17 mm (Dia.xH max); Pin Spacing 5.0 mm (typ))
simulation model CAP (Capacitor)
signal-integrity model Q6M336035M00D
pins: 1, 2
1 alternate drawing of the same symbol

## Q6N107016M00D
designator C?
Resin-Coated, Radial-Lead Solid Tantalum Capacitor: 100uF, 20% Tolerance, UR = 16 Volt @ +85°C, Surge = 20.8V; Note: See Data Sheet for full range of components; Published: 19-Mar-2004; DatasheetDocument: 28-Mar-2002; PackageReference: ETQW-6N; Publisher: Altium Limited; ComponentLink1Description: Manufacturer Link; ComponentLink1URL: http://www.vishay.com/; ComponentLink2Description: Datasheet; ComponentLink2URL: http://www.vishay.com/docs/42075/etqw.pdf; Value: 100uF
footprint ETQW-6N (Capacitor, Tantalum Bead; Body 9.5 x 17 mm (Dia.xH max); Pin Spacing 5.0 mm (typ))
simulation model CAP (Capacitor)
signal-integrity model Q6N107016M00D
pins: 1, 2
1 alternate drawing of the same symbol

## Q6P476035M00D
designator C?
Resin-Coated, Radial-Lead Solid Tantalum Capacitor: 47uF, 20% Tolerance, UR = 35 Volt @ +85°C, Surge = 45.5V; Note: See Data Sheet for full range of components; Published: 19-Mar-2004; DatasheetDocument: 28-Mar-2002; PackageReference: ETQW-6P; Publisher: Altium Limited; ComponentLink1Description: Manufacturer Link; ComponentLink1URL: http://www.vishay.com/; ComponentLink2Description: Datasheet; ComponentLink2URL: http://www.vishay.com/docs/42075/etqw.pdf; Value: 47uF
footprint ETQW-6P (Capacitor, Tantalum Bead; Body 9.5 x 17 mm (Dia.xH max); Pin Spacing 5.0 mm (typ))
simulation model CAP (Capacitor)
signal-integrity model Q6P476035M00D
pins: 1, 2
1 alternate drawing of the same symbol

## Q6R157016M00D
designator C?
Resin-Coated, Radial-Lead Solid Tantalum Capacitor: 150uF, 20% Tolerance, UR = 16 Volt @ +85°C, Surge = 20.8V; Note: See Data Sheet for full range of components; Published: 19-Mar-2004; DatasheetDocument: 28-Mar-2002; PackageReference: ETQW-6R; Publisher: Altium Limited; ComponentLink1Description: Manufacturer Link; ComponentLink1URL: http://www.vishay.com/; ComponentLink2Description: Datasheet; ComponentLink2URL: http://www.vishay.com/docs/42075/etqw.pdf; Value: 150uF
footprint ETQW-6R (Capacitor, Tantalum Bead; Body 9.5 x 17 mm (Dia.xH max); Pin Spacing 5.0 mm (typ))
simulation model CAP (Capacitor)
signal-integrity model Q6R157016M00D
pins: 1, 2
1 alternate drawing of the same symbol